# Altium footprint library HEADER_F_1x5_2.54.PcbLib: 1 footprints
Each footprint in its own frame and in the unit in brackets; x right, y up, seen from the top. Pads: shape width x height; smd on the part's side, far side on the other; paste and mask are expansions set on the pad; w line width, h text height; cw(c..) or ccw(c..) is an arc to the next point about the centre after c.
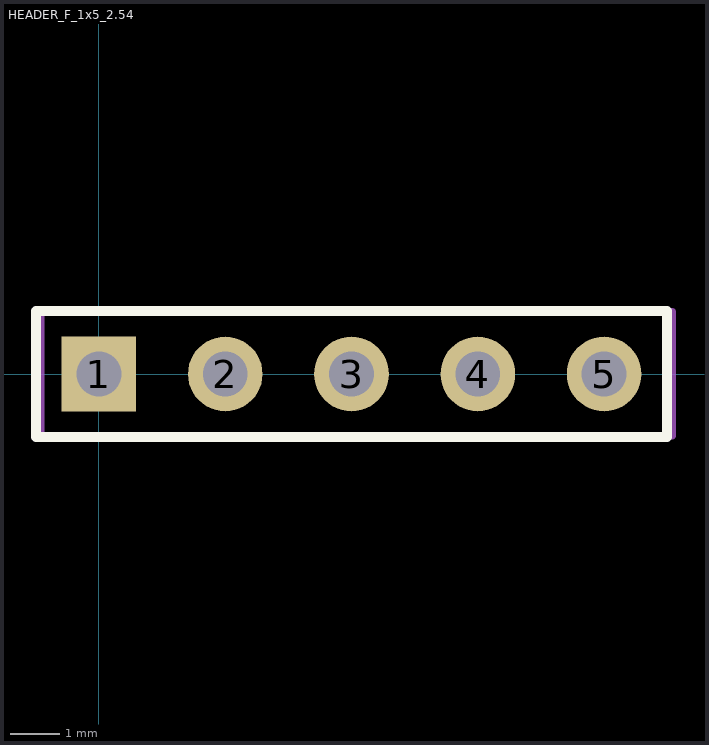
[diagram p0: the footprint, top view; thin cyan lines are the x and y axes]

## HEADER_F_1x5_2.54 [mm] "Connector; Header; 5 Position, Male"
pads (5):
  rect 1.5x1.5 hole 0.9: 1(0,0)
  round 1.5 hole 0.9: 2(2.54,0) 3(5.08,0) 4(7.62,0) 5(10.16,0)
Top Overlay:
  lines w0.2: -1.27,-1.27 11.43,-1.27 11.43,1.27 -1.27,1.27 -1.27,-1.27
Mechanical 13:
  lines w0.15: -1.17,-1.246 -1.17,1.253 11.53,1.253 11.53,-1.246 -1.17,-1.246
3D body "User Library-ZL262-5SG.step": height 8.4, standoff -3.15, extent -1.27,-1.23 11.43,1.27